# EAGLE library part DIN5 (library f-connector-interface)
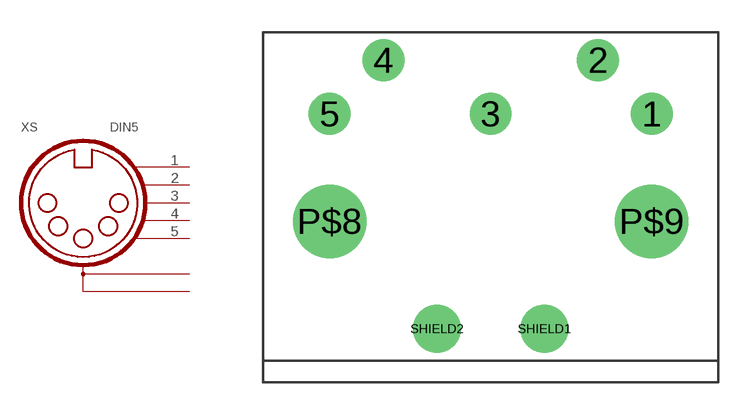
[diagram p5: symbol with the pads of DIN5; footprint DIN5]

Designator prefix XS

## DIN5  [DIN5]
1  1
2  2
3  3
4  4
5  5
SHIELD1  SHIELD1
SHIELD2  SHIELD2

## Footprint DIN5 (pad centres in mm)
drill 1.3: 1 7.5,10; 2 5,12.5; 3 0,10; 4 -5,12.5; 5 -7.5,10
drill 2.4: P$8 -7.5,5; P$9 7.5,5
drill 1.5: SHIELD1 2.5,0; SHIELD2 -2.5,0